# EAGLE library part 74253 (library dooba)
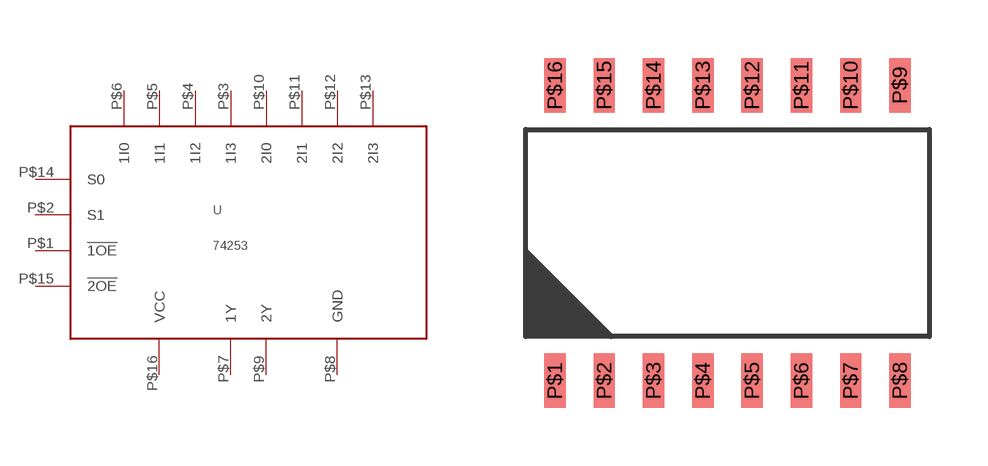
[diagram p41: symbol with the pads of SO16; footprint SO16]

Designator prefix U

## 74253NS  [SO16]
P$1  !1OE
P$2  S1
P$3  1I3
P$4  1I2
P$5  1I1
P$6  1I0
P$7  1Y
P$8  GND
P$9  2Y
P$10  2I0
P$11  2I1
P$12  2I2
P$13  2I3
P$14  S0
P$15  !2OE
P$16  VCC

## Footprint SO16 (pad centres in mm)
smd 0.55 x 1.4: P$1 -4.445,-3.81; P$2 -3.175,-3.81; P$3 -1.905,-3.81; P$4 -0.635,-3.81; P$5 0.635,-3.81; P$6 1.905,-3.81; P$7 3.175,-3.81; P$8 4.445,-3.81; P$9 4.445,3.81; P$10 3.175,3.81; P$11 1.905,3.81; P$12 0.635,3.81; P$13 -0.635,3.81; P$14 -1.905,3.81; P$15 -3.175,3.81; P$16 -4.445,3.81